# Altium footprint library PKY_LIB.PcbLib: 59 footprints (part 2 of 5)
Each footprint in its own frame and in the unit in brackets; x right, y up, seen from the top. Pads: shape width x height; smd on the part's side, far side on the other; paste and mask are expansions set on the pad; w line width, h text height; cw(c..) or ccw(c..) is an arc to the next point about the centre after c.
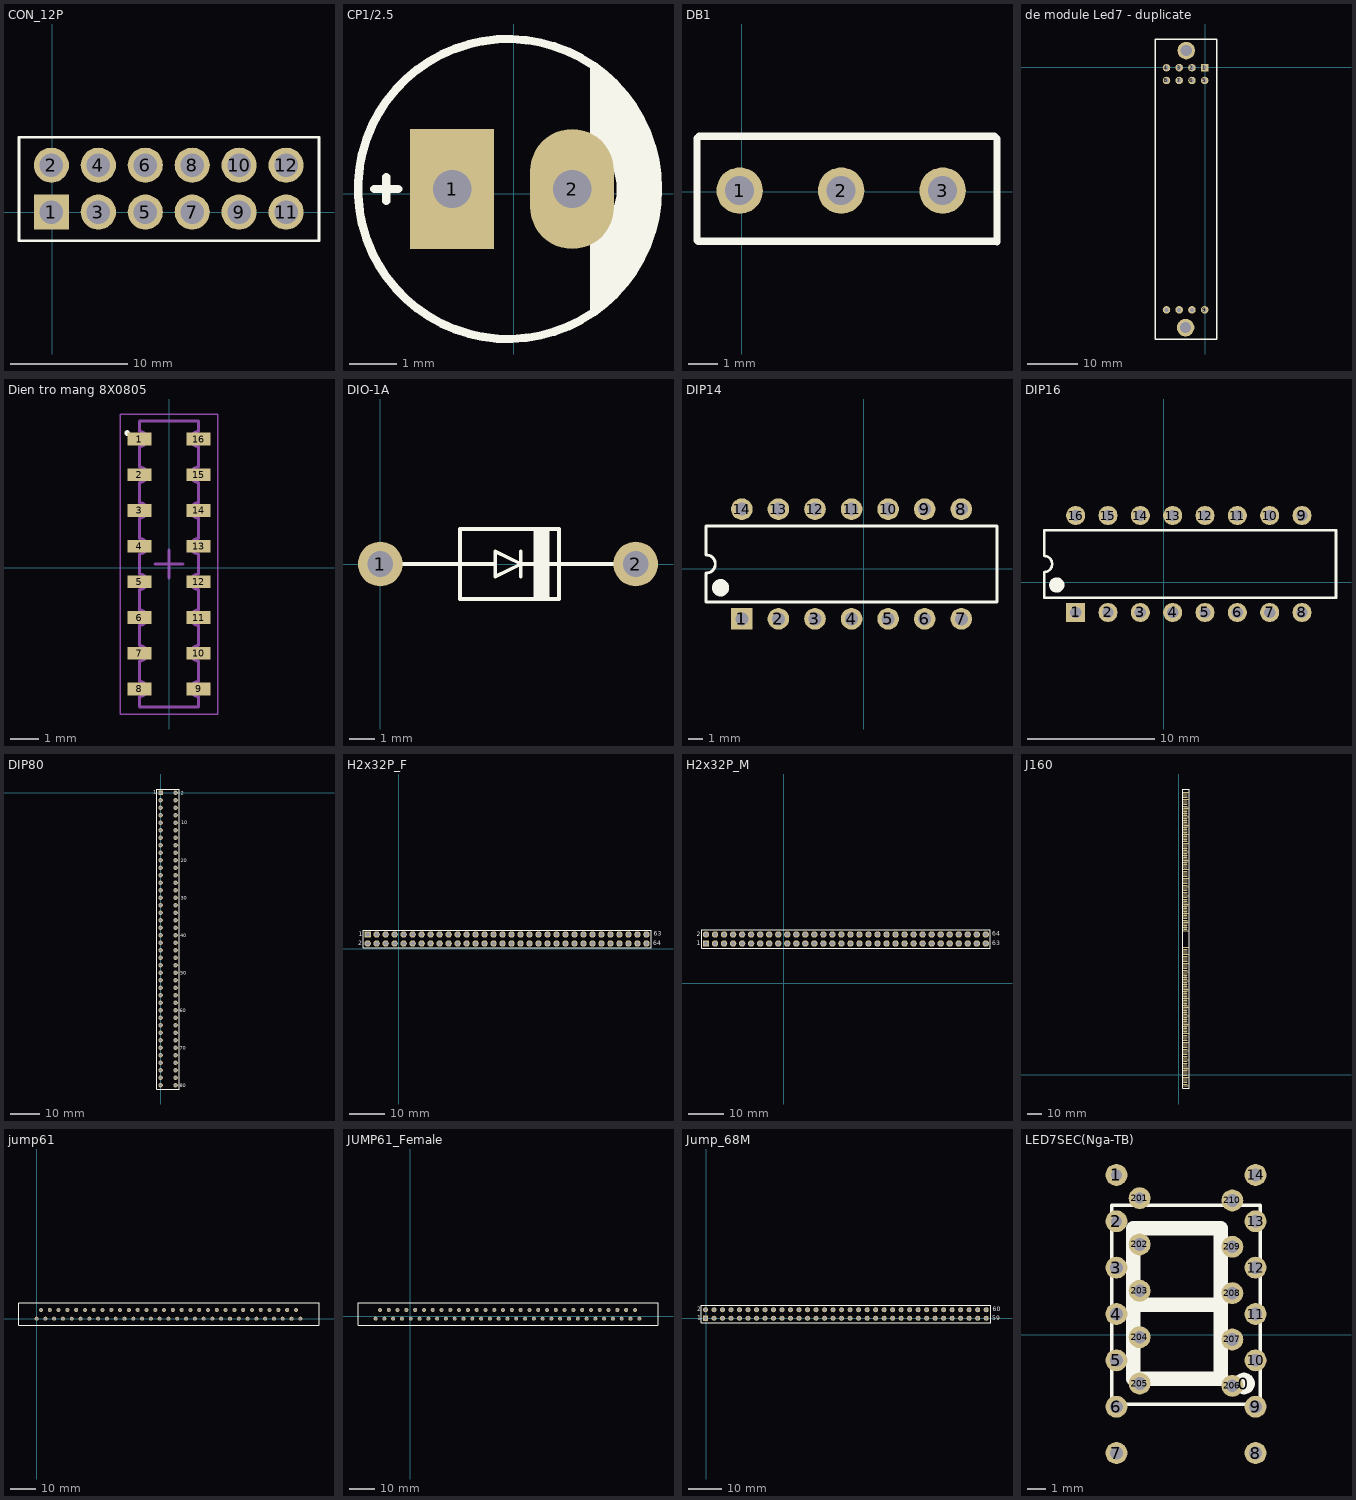
[diagram p1: the footprints below, top view; thin cyan lines are the x and y axes]

## CON_12P [mm]
pads (12):
  rect 3x3 hole 2: 1(-0.062,0.011)
  round 3 hole 2: 2(-0.062,4.011) 3(3.938,0.011) 4(3.938,4.011) 5(7.938,0.011) 6(7.938,4.011) 7(11.938,0.011) 8(11.938,4.011) 9(15.938,0.011) 10(15.938,4.011) 11(19.938,0.011) 12(19.938,4.011)
Top Overlay:
  lines w0.254: -2.825,6.394 -2.825,-2.428 22.747,-2.428 22.747,6.394 -2.663,6.394

## CP1/2.5 [mil]
pads (2):
  rect 70x100 hole 32: 1(-51.3,4.04)
  oval 70x100 hole 32: 2(48.7,4.04)
Top Overlay:
  circle w7: c-4.72,4.04 r125
  region: 63.7,109.04 63.7,40.04 70.7,35.04 77.7,29.04 81.7,24.04 83.7,19.04 85.7,9.04 85.7,-1.96 83.7,-9.96 80.7,-14.96 76.7,-19.96 72.7,-23.96 68.7,-26.96 63.7,-29.96 63.7,-102.96 72.7,-94.96 87.7,-81.96 100.7,-64.96 115.7,-31.96 119.7,-10.96 120.28,4.04 115.7,34.04 101.7,71.04 79.7,97.04
  lines w7: -116.3,4.04 -96.3,4.04 ; -106.3,-5.96 -106.3,-0.96 -106.3,9.04 -106.3,14.04
3D body "User Library-Cap 6_3x11.STEP": height 421.54, standoff -759.57, extent -127.3,-119.99 120.73,128.04

## DB1 [mm]
pads (3):
  round 1.6 hole 1: 1(-0.079,0.028) 2(3.421,0.028) 3(6.921,0.028)
Top Overlay:
  lines w0.254: -1.552,1.832 -1.552,-1.676 -1.516,-1.712 8.777,-1.712 8.795,-1.73 8.795,1.814 8.706,1.903 -1.48,1.903

## de module Led7 - duplicate [mm]
pads (14):
  rect 1.5x1.5 hole 0.8: 1(-0.078,-0.026)
  round 1.5 hole 0.8: 2(-2.618,-0.051) 3(-5.158,-0.026) 4(-7.698,-0.051) 5(-0.078,-2.591) 6(-2.618,-2.591) 7(-5.158,-2.591) 8(-7.698,-2.591) 9(-0.078,-48.311) 10(-2.618,-48.311) 11(-5.158,-48.311) 12(-7.698,-48.311)
  round 3.5 hole 2.2: ""(-3.888,-51.867) ""(-3.761,3.378)
Top Overlay:
  lines w0.254: -9.916,-54.127 2.296,-54.127 2.296,5.679 -9.916,5.679 -9.916,-54.127
3D body: height 1, standoff -10, extent -8.213,-0.563 -7.197,0.453
3D body: height 1, standoff -10, extent -5.673,-0.563 -4.657,0.453
3D body: height 1, standoff -10, extent -3.133,-0.563 -2.117,0.453
3D body: height 1, standoff -10, extent -0.593,-0.563 0.423,0.453
3D body: height 1, standoff -10, extent -8.213,-3.103 -7.197,-2.087
3D body: height 1, standoff -10, extent -5.673,-3.103 -4.657,-2.087
3D body: height 1, standoff -10, extent -3.133,-3.103 -2.117,-2.087
3D body: height 1, standoff -10, extent -0.593,-3.103 0.423,-2.087
3D body: height 1, standoff -10, extent -8.205,-48.819 -7.189,-47.803
3D body: height 1, standoff -10, extent -5.665,-48.819 -4.649,-47.803
3D body: height 1, standoff -10, extent -3.125,-48.819 -2.109,-47.803
3D body: height 1, standoff -10, extent -0.585,-48.819 0.431,-47.803

## Dien tro mang 8X0805 [mm]
pads (16):
  rect 0.85x0.45 smd: 1(-1.05,4.572) 2(-1.05,3.302) 3(-1.05,2.032) 4(-1.05,0.762) 5(-1.05,-0.508) 6(-1.05,-1.778) 7(-1.05,-3.048) 8(-1.05,-4.318) 9(1.05,-4.318) 10(1.05,-3.048) 11(1.05,-1.778) 12(1.05,-0.508) 13(1.05,0.762) 14(1.05,2.032) 15(1.05,3.302) 16(1.05,4.572)
Top Overlay:
  circle w0.1: c-1.487,4.785 r0.05
Mechanical 13:
  lines w0.1: -1.05,-4.958 1.05,-4.958 1.05,-4.593 cw(c1.05,-4.318) 1.05,-4.043 1.05,-3.323 cw(c1.05,-3.048) 1.05,-2.773 1.05,-2.053 cw(c1.05,-1.778) 1.05,-1.503 1.05,-0.783 cw(c1.05,-0.508) 1.05,-0.233 1.05,0.487 cw(c1.05,0.762) 1.05,1.037 1.05,1.757 cw(c1.05,2.032) 1.05,2.307 1.05,3.027 cw(c1.05,3.302) 1.05,3.577 1.05,4.297 cw(c1.05,4.572) 1.05,4.847 1.05,5.212 -1.05,5.212 -1.05,4.847 cw(c-1.05,4.572) -1.05,4.297 -1.05,3.577 cw(c-1.05,3.302) -1.05,3.027 -1.05,2.307 cw(c-1.05,2.032) -1.05,1.757 -1.05,1.037 cw(c-1.05,0.762) -1.05,0.487 -1.05,-0.233 cw(c-1.05,-0.508) -1.05,-0.783 -1.05,-1.503 cw(c-1.05,-1.778) -1.05,-2.053 -1.05,-2.773 cw(c-1.05,-3.048) -1.05,-3.323 -1.05,-4.043 cw(c-1.05,-4.318) -1.05,-4.593 -1.05,-4.958
Mechanical 15:
  lines w0.05: -1.735,-5.208 1.735,-5.208 1.735,5.462 -1.735,5.462 -1.735,-5.208
  lines w0.1: -0.5,0.127 0.5,0.127 ; 0,-0.373 0,0.627
3D body: height 0.6, standoff 0, extent -1,-4.958 1,5.212

## DIO-1A [mil]
pads (2):
  round 70 hole 40: 1(0,0) 2(400,0)
Top Overlay:
  rectangle: 240,-55 265,55
  lines w6: 60,0 125,0 ; 180,0 125,0 ; 220,-20 220,20 ; 125,0 125,55 280,55 280,40 280,0 ; 125,0 125,-55 280,-55 280,0 ; 220,0 180,20 180,-20 220,0 ; 220,0 280,0 ; 280,0 335,0 ; 335,0 365,0 335,0 ; 35,0 65,0 35,0

## DIP14 [mm]
pads (14):
  rect 1.5x1.5 hole 0.9: 1(-8.471,-3.463)
  round 1.5 hole 0.9: 2(-5.931,-3.463) 3(-3.391,-3.463) 4(-0.851,-3.463) 5(1.689,-3.463) 6(4.229,-3.463) 7(6.769,-3.463) 8(6.769,4.157) 9(4.229,4.157) 10(1.689,4.157) 11(-0.851,4.157) 12(-3.391,4.157) 13(-5.931,4.157) 14(-8.471,4.157)
Top Overlay:
  circle w0.6: c-9.951,-1.303 r0.3
  lines w0.2: -10.951,-2.303 -10.951,-0.288 ccw(c-10.951,0.347) -10.951,0.982 -10.951,2.997 9.249,2.997 9.249,-2.303 -10.951,-2.303

## DIP16 [mm]
pads (16):
  rect 1.5x1.5 hole 0.9: 1(-6.936,-2.382)
  round 1.5 hole 0.9: 2(-4.396,-2.382) 3(-1.856,-2.382) 4(0.684,-2.382) 5(3.224,-2.382) 6(5.764,-2.382) 7(8.304,-2.382) 8(10.844,-2.382) 9(10.844,5.238) 10(8.304,5.238) 11(5.764,5.238) 12(3.224,5.238) 13(0.684,5.238) 14(-1.856,5.238) 15(-4.396,5.238) 16(-6.936,5.238)
Top Overlay:
  circle w0.6: c-8.416,-0.222 r0.3
  lines w0.2: -9.416,-1.222 -9.416,0.793 ccw(c-9.416,1.428) -9.416,2.063 -9.416,4.078 13.516,4.078 13.516,-1.222 -9.416,-1.222

## DIP80 [mm]
pads (80):
  rect 1.5x1.5 hole 0.9: 1(0,0)
  round 1.5 hole 0.9: 2(5.08,0) 3(0,-2.54) 4(5.08,-2.54) 5(0,-5.08) 6(5.08,-5.08) 7(0,-7.62) 8(5.08,-7.62) 9(0,-10.16) 10(5.08,-10.16) 11(0,-12.7) 12(5.08,-12.7) 13(0,-15.24) 14(5.08,-15.24) 15(0,-17.78) 16(5.08,-17.78) 17(0,-20.32) 18(5.08,-20.32) 19(0,-22.86) 20(5.08,-22.86) 21(0,-25.4) 22(5.08,-25.4) 23(0,-27.94) 24(5.08,-27.94) 25(0,-30.48) 26(5.08,-30.48) 27(0,-33.02) 28(5.08,-33.02) 29(0,-35.56) 30(5.08,-35.56) 31(0,-38.1) 32(5.08,-38.1) 33(0,-40.64) 34(5.08,-40.64) 35(0,-43.18) 36(5.08,-43.18) 37(0,-45.72) 38(5.08,-45.72) 39(0,-48.26) 40(5.08,-48.26) 41(0,-50.8) 42(5.08,-50.8) 43(0,-53.34) 44(5.08,-53.34) 45(0,-55.88) 46(5.08,-55.88) 47(0,-58.42) 48(5.08,-58.42) 49(0,-60.96) 50(5.08,-60.96) 51(0,-63.5) 52(5.08,-63.5) 53(0,-66.04) 54(5.08,-66.04) 55(0,-68.58) 56(5.08,-68.58) 57(0,-71.12) 58(5.08,-71.12) 59(0,-73.66) 60(5.08,-73.66) 61(0,-76.2) 62(5.08,-76.2) 63(0,-78.74) 64(5.08,-78.74) 65(0,-81.28) 66(5.08,-81.28) 67(0,-83.82) 68(5.08,-83.82) 69(0,-86.36) 70(5.08,-86.36) 71(0,-88.9) 72(5.08,-88.9) 73(0,-91.44) 74(5.08,-91.44) 75(0,-93.98) 76(5.08,-93.98) 77(0,-96.52) 78(5.08,-96.52) 79(0,-99.06) 80(5.08,-99.06)
Top Overlay:
  lines w0.2: -1.27,-100.33 -1.27,-49.53 -1.27,1.27 6.35,1.27 6.35,-49.53 6.35,-100.33 -1.27,-100.33
  text "1" at -2.54,-0.381 h1.27
  text "2" at 6.782,-0.711 h1.27
  text "10" at 6.985,-10.668 h1.27
  text "20" at 6.782,-23.571 h1.27
  text "30" at 6.782,-36.271 h1.27
  text "40" at 6.655,-48.971 h1.27
  text "50" at 6.655,-61.671 h1.27
  text "60" at 6.528,-74.371 h1.27
  text "70" at 6.528,-87.071 h1.27
  text "80" at 6.528,-99.771 h1.27
3D body: height 7, standoff -1, extent -0.406,-10.566 0.39,-9.768
3D body: height 7, standoff -1, extent -0.406,-8.026 0.39,-7.228
3D body: height 7, standoff -1, extent -0.406,-5.486 0.39,-4.688
3D body: height 7, standoff -1, extent -0.406,-2.946 0.39,-2.148
3D body: height 7, standoff -1, extent -0.406,-0.406 0.39,0.392
3D body: height 1.5, standoff 0, extent 1.27,-11.43 3.81,-8.89
3D body: height 1.5, standoff 0, extent -1.27,-11.43 1.27,-8.89
3D body: height 1.5, standoff 0, extent 1.27,-8.89 3.81,-6.35
3D body: height 1.5, standoff 0, extent -1.27,-8.89 1.27,-6.35
3D body: height 1.5, standoff 0, extent 1.27,-6.35 3.81,-3.81
3D body: height 1.5, standoff 0, extent -1.27,-6.35 1.27,-3.81
3D body: height 1.5, standoff 0, extent 1.27,-3.81 3.81,-1.27
3D body: height 1.5, standoff 0, extent -1.27,-3.81 1.27,-1.27
3D body: height 1.5, standoff 0, extent 1.27,-1.27 3.81,1.27
3D body: height 1.5, standoff 0, extent -1.27,-1.27 1.27,1.27
3D body: height 1.5, standoff 0, extent 3.81,-1.27 6.35,1.27
3D body: height 1.5, standoff 0, extent 3.81,-3.81 6.35,-1.27
3D body: height 1.5, standoff 0, extent 3.81,-6.35 6.35,-3.81
3D body: height 1.5, standoff 0, extent 3.81,-8.89 6.35,-6.35
3D body: height 1.5, standoff 0, extent 3.81,-11.43 6.35,-8.89
3D body: height 7, standoff -1, extent 4.674,-0.406 5.47,0.392
3D body: height 7, standoff -1, extent 4.674,-2.946 5.47,-2.148
3D body: height 7, standoff -1, extent 4.674,-5.486 5.47,-4.688
3D body: height 7, standoff -1, extent 4.674,-8.026 5.47,-7.228
3D body: height 7, standoff -1, extent 4.674,-10.566 5.47,-9.768
3D body: height 7, standoff -1, extent -0.406,-23.266 0.39,-22.468
3D body: height 7, standoff -1, extent -0.406,-20.726 0.39,-19.928
3D body: height 7, standoff -1, extent -0.406,-18.186 0.39,-17.388
3D body: height 7, standoff -1, extent -0.406,-15.646 0.39,-14.848
3D body: height 7, standoff -1, extent -0.406,-13.106 0.39,-12.308
3D body: height 1.5, standoff 0, extent 1.27,-24.13 3.81,-21.59
3D body: height 1.5, standoff 0, extent -1.27,-24.13 1.27,-21.59
3D body: height 1.5, standoff 0, extent 1.27,-21.59 3.81,-19.05
3D body: height 1.5, standoff 0, extent -1.27,-21.59 1.27,-19.05
3D body: height 1.5, standoff 0, extent 1.27,-19.05 3.81,-16.51
3D body: height 1.5, standoff 0, extent -1.27,-19.05 1.27,-16.51
3D body: height 1.5, standoff 0, extent 1.27,-16.51 3.81,-13.97
3D body: height 1.5, standoff 0, extent -1.27,-16.51 1.27,-13.97
3D body: height 1.5, standoff 0, extent 1.27,-13.97 3.81,-11.43
3D body: height 1.5, standoff 0, extent -1.27,-13.97 1.27,-11.43
3D body: height 1.5, standoff 0, extent 3.81,-13.97 6.35,-11.43
3D body: height 1.5, standoff 0, extent 3.81,-16.51 6.35,-13.97
3D body: height 1.5, standoff 0, extent 3.81,-19.05 6.35,-16.51
3D body: height 1.5, standoff 0, extent 3.81,-21.59 6.35,-19.05
3D body: height 1.5, standoff 0, extent 3.81,-24.13 6.35,-21.59
3D body: height 7, standoff -1, extent 4.674,-13.106 5.47,-12.308
3D body: height 7, standoff -1, extent 4.674,-15.646 5.47,-14.848
3D body: height 7, standoff -1, extent 4.674,-18.186 5.47,-17.388
3D body: height 7, standoff -1, extent 4.674,-20.726 5.47,-19.928
3D body: height 7, standoff -1, extent 4.674,-23.266 5.47,-22.468
3D body: height 7, standoff -1, extent 4.674,-48.666 5.47,-47.868
3D body: height 7, standoff -1, extent 4.674,-46.126 5.47,-45.328
3D body: height 7, standoff -1, extent 4.674,-43.586 5.47,-42.788
3D body: height 7, standoff -1, extent 4.674,-41.046 5.47,-40.248
3D body: height 7, standoff -1, extent 4.674,-38.506 5.47,-37.708
3D body: height 1.5, standoff 0, extent 3.81,-49.53 6.35,-46.99
3D body: height 1.5, standoff 0, extent 3.81,-46.99 6.35,-44.45
3D body: height 1.5, standoff 0, extent 3.81,-44.45 6.35,-41.91
3D body: height 1.5, standoff 0, extent 3.81,-41.91 6.35,-39.37
3D body: height 1.5, standoff 0, extent 3.81,-39.37 6.35,-36.83
3D body: height 1.5, standoff 0, extent -1.27,-39.37 1.27,-36.83
3D body: height 1.5, standoff 0, extent 1.27,-39.37 3.81,-36.83
3D body: height 1.5, standoff 0, extent -1.27,-41.91 1.27,-39.37
3D body: height 1.5, standoff 0, extent 1.27,-41.91 3.81,-39.37
3D body: height 1.5, standoff 0, extent -1.27,-44.45 1.27,-41.91
3D body: height 1.5, standoff 0, extent 1.27,-44.45 3.81,-41.91
3D body: height 1.5, standoff 0, extent -1.27,-46.99 1.27,-44.45
3D body: height 1.5, standoff 0, extent 1.27,-46.99 3.81,-44.45
3D body: height 1.5, standoff 0, extent -1.27,-49.53 1.27,-46.99
3D body: height 1.5, standoff 0, extent 1.27,-49.53 3.81,-46.99
3D body: height 7, standoff -1, extent -0.406,-38.506 0.39,-37.708
3D body: height 7, standoff -1, extent -0.406,-41.046 0.39,-40.248
3D body: height 7, standoff -1, extent -0.406,-43.586 0.39,-42.788
3D body: height 7, standoff -1, extent -0.406,-46.126 0.39,-45.328
3D body: height 7, standoff -1, extent -0.406,-48.666 0.39,-47.868
3D body: height 7, standoff -1, extent 4.674,-35.966 5.47,-35.168
3D body: height 7, standoff -1, extent 4.674,-33.426 5.47,-32.628
3D body: height 7, standoff -1, extent 4.674,-30.886 5.47,-30.088
3D body: height 7, standoff -1, extent 4.674,-28.346 5.47,-27.548
3D body: height 7, standoff -1, extent 4.674,-25.806 5.47,-25.008
3D body: height 1.5, standoff 0, extent 3.81,-36.83 6.35,-34.29
3D body: height 1.5, standoff 0, extent 3.81,-34.29 6.35,-31.75
3D body: height 1.5, standoff 0, extent 3.81,-31.75 6.35,-29.21
3D body: height 1.5, standoff 0, extent 3.81,-29.21 6.35,-26.67
3D body: height 1.5, standoff 0, extent 3.81,-26.67 6.35,-24.13
3D body: height 1.5, standoff 0, extent -1.27,-26.67 1.27,-24.13
3D body: height 1.5, standoff 0, extent 1.27,-26.67 3.81,-24.13
3D body: height 1.5, standoff 0, extent -1.27,-29.21 1.27,-26.67
3D body: height 1.5, standoff 0, extent 1.27,-29.21 3.81,-26.67
3D body: height 1.5, standoff 0, extent -1.27,-31.75 1.27,-29.21
3D body: height 1.5, standoff 0, extent 1.27,-31.75 3.81,-29.21
3D body: height 1.5, standoff 0, extent -1.27,-34.29 1.27,-31.75
3D body: height 1.5, standoff 0, extent 1.27,-34.29 3.81,-31.75
3D body: height 1.5, standoff 0, extent -1.27,-36.83 1.27,-34.29
3D body: height 1.5, standoff 0, extent 1.27,-36.83 3.81,-34.29
3D body: height 7, standoff -1, extent -0.406,-25.806 0.39,-25.008
3D body: height 7, standoff -1, extent -0.406,-28.346 0.39,-27.548
3D body: height 7, standoff -1, extent -0.406,-30.886 0.39,-30.088
3D body: height 7, standoff -1, extent -0.406,-33.426 0.39,-32.628
3D body: height 7, standoff -1, extent -0.406,-35.966 0.39,-35.168
3D body: height 7, standoff -1, extent -0.406,-86.766 0.39,-85.968
3D body: height 7, standoff -1, extent -0.406,-84.226 0.39,-83.428
3D body: height 7, standoff -1, extent -0.406,-81.686 0.39,-80.888
3D body: height 7, standoff -1, extent -0.406,-79.146 0.39,-78.348
3D body: height 7, standoff -1, extent -0.406,-76.606 0.39,-75.808
3D body: height 1.5, standoff 0, extent 1.27,-87.63 3.81,-85.09
3D body: height 1.5, standoff 0, extent -1.27,-87.63 1.27,-85.09
3D body: height 1.5, standoff 0, extent 1.27,-85.09 3.81,-82.55
3D body: height 1.5, standoff 0, extent -1.27,-85.09 1.27,-82.55
3D body: height 1.5, standoff 0, extent 1.27,-82.55 3.81,-80.01
3D body: height 1.5, standoff 0, extent -1.27,-82.55 1.27,-80.01
3D body: height 1.5, standoff 0, extent 1.27,-80.01 3.81,-77.47
3D body: height 1.5, standoff 0, extent -1.27,-80.01 1.27,-77.47
3D body: height 1.5, standoff 0, extent 1.27,-77.47 3.81,-74.93
3D body: height 1.5, standoff 0, extent -1.27,-77.47 1.27,-74.93
3D body: height 1.5, standoff 0, extent 3.81,-77.47 6.35,-74.93
3D body: height 1.5, standoff 0, extent 3.81,-80.01 6.35,-77.47
3D body: height 1.5, standoff 0, extent 3.81,-82.55 6.35,-80.01
3D body: height 1.5, standoff 0, extent 3.81,-85.09 6.35,-82.55
3D body: height 1.5, standoff 0, extent 3.81,-87.63 6.35,-85.09
3D body: height 7, standoff -1, extent 4.674,-76.606 5.47,-75.808
3D body: height 7, standoff -1, extent 4.674,-79.146 5.47,-78.348
3D body: height 7, standoff -1, extent 4.674,-81.686 5.47,-80.888
3D body: height 7, standoff -1, extent 4.674,-84.226 5.47,-83.428
3D body: height 7, standoff -1, extent 4.674,-86.766 5.47,-85.968
3D body: height 7, standoff -1, extent -0.406,-99.466 0.39,-98.668
3D body: height 7, standoff -1, extent -0.406,-96.926 0.39,-96.128
3D body: height 7, standoff -1, extent -0.406,-94.386 0.39,-93.588
3D body: height 7, standoff -1, extent -0.406,-91.846 0.39,-91.048
3D body: height 7, standoff -1, extent -0.406,-89.306 0.39,-88.508
3D body: height 1.5, standoff 0, extent 1.27,-100.33 3.81,-97.79
3D body: height 1.5, standoff 0, extent -1.27,-100.33 1.27,-97.79
3D body: height 1.5, standoff 0, extent 1.27,-97.79 3.81,-95.25
3D body: height 1.5, standoff 0, extent -1.27,-97.79 1.27,-95.25
3D body: height 1.5, standoff 0, extent 1.27,-95.25 3.81,-92.71
3D body: height 1.5, standoff 0, extent -1.27,-95.25 1.27,-92.71
3D body: height 1.5, standoff 0, extent 1.27,-92.71 3.81,-90.17
3D body: height 1.5, standoff 0, extent -1.27,-92.71 1.27,-90.17
3D body: height 1.5, standoff 0, extent 1.27,-90.17 3.81,-87.63
3D body: height 1.5, standoff 0, extent -1.27,-90.17 1.27,-87.63
3D body: height 1.5, standoff 0, extent 3.81,-90.17 6.35,-87.63
3D body: height 1.5, standoff 0, extent 3.81,-92.71 6.35,-90.17
3D body: height 1.5, standoff 0, extent 3.81,-95.25 6.35,-92.71
3D body: height 1.5, standoff 0, extent 3.81,-97.79 6.35,-95.25
3D body: height 1.5, standoff 0, extent 3.81,-100.33 6.35,-97.79
3D body: height 7, standoff -1, extent 4.674,-89.306 5.47,-88.508
3D body: height 7, standoff -1, extent 4.674,-91.846 5.47,-91.048
3D body: height 7, standoff -1, extent 4.674,-94.386 5.47,-93.588
3D body: height 7, standoff -1, extent 4.674,-96.926 5.47,-96.128
3D body: height 7, standoff -1, extent 4.674,-99.466 5.47,-98.668
3D body: height 7, standoff -1, extent 4.674,-74.066 5.47,-73.268
3D body: height 7, standoff -1, extent 4.674,-71.526 5.47,-70.728
3D body: height 7, standoff -1, extent 4.674,-68.986 5.47,-68.188
3D body: height 7, standoff -1, extent 4.674,-66.446 5.47,-65.648
3D body: height 7, standoff -1, extent 4.674,-63.906 5.47,-63.108
3D body: height 1.5, standoff 0, extent 3.81,-74.93 6.35,-72.39
3D body: height 1.5, standoff 0, extent 3.81,-72.39 6.35,-69.85
3D body: height 1.5, standoff 0, extent 3.81,-69.85 6.35,-67.31
3D body: height 1.5, standoff 0, extent 3.81,-67.31 6.35,-64.77
3D body: height 1.5, standoff 0, extent 3.81,-64.77 6.35,-62.23
3D body: height 1.5, standoff 0, extent -1.27,-64.77 1.27,-62.23
3D body: height 1.5, standoff 0, extent 1.27,-64.77 3.81,-62.23
3D body: height 1.5, standoff 0, extent -1.27,-67.31 1.27,-64.77
3D body: height 1.5, standoff 0, extent 1.27,-67.31 3.81,-64.77
3D body: height 1.5, standoff 0, extent -1.27,-69.85 1.27,-67.31
3D body: height 1.5, standoff 0, extent 1.27,-69.85 3.81,-67.31
3D body: height 1.5, standoff 0, extent -1.27,-72.39 1.27,-69.85
3D body: height 1.5, standoff 0, extent 1.27,-72.39 3.81,-69.85
3D body: height 1.5, standoff 0, extent -1.27,-74.93 1.27,-72.39
3D body: height 1.5, standoff 0, extent 1.27,-74.93 3.81,-72.39
3D body: height 7, standoff -1, extent -0.406,-63.906 0.39,-63.108
3D body: height 7, standoff -1, extent -0.406,-66.446 0.39,-65.648
3D body: height 7, standoff -1, extent -0.406,-68.986 0.39,-68.188
3D body: height 7, standoff -1, extent -0.406,-71.526 0.39,-70.728
3D body: height 7, standoff -1, extent -0.406,-74.066 0.39,-73.268
3D body: height 7, standoff -1, extent 4.674,-61.366 5.47,-60.568
3D body: height 7, standoff -1, extent 4.674,-58.826 5.47,-58.028
3D body: height 7, standoff -1, extent 4.674,-56.286 5.47,-55.488
3D body: height 7, standoff -1, extent 4.674,-53.746 5.47,-52.948
3D body: height 7, standoff -1, extent 4.674,-51.206 5.47,-50.408
3D body: height 1.5, standoff 0, extent 3.81,-62.23 6.35,-59.69
3D body: height 1.5, standoff 0, extent 3.81,-59.69 6.35,-57.15
3D body: height 1.5, standoff 0, extent 3.81,-57.15 6.35,-54.61
3D body: height 1.5, standoff 0, extent 3.81,-54.61 6.35,-52.07
3D body: height 1.5, standoff 0, extent 3.81,-52.07 6.35,-49.53
3D body: height 1.5, standoff 0, extent -1.27,-52.07 1.27,-49.53
3D body: height 1.5, standoff 0, extent 1.27,-52.07 3.81,-49.53
3D body: height 1.5, standoff 0, extent -1.27,-54.61 1.27,-52.07
3D body: height 1.5, standoff 0, extent 1.27,-54.61 3.81,-52.07
3D body: height 1.5, standoff 0, extent -1.27,-57.15 1.27,-54.61
3D body: height 1.5, standoff 0, extent 1.27,-57.15 3.81,-54.61
3D body: height 1.5, standoff 0, extent -1.27,-59.69 1.27,-57.15
3D body: height 1.5, standoff 0, extent 1.27,-59.69 3.81,-57.15
3D body: height 1.5, standoff 0, extent -1.27,-62.23 1.27,-59.69
3D body: height 1.5, standoff 0, extent 1.27,-62.23 3.81,-59.69
3D body: height 7, standoff -1, extent -0.406,-51.206 0.39,-50.408
3D body: height 7, standoff -1, extent -0.406,-53.746 0.39,-52.948
3D body: height 7, standoff -1, extent -0.406,-56.286 0.39,-55.488
3D body: height 7, standoff -1, extent -0.406,-58.826 0.39,-58.028
3D body: height 7, standoff -1, extent -0.406,-61.366 0.39,-60.568

## H2x32P_F [mm]
pads (64):
  rect 1.8x1.8 hole 1.2: 1(-8.775,4.038)
  round 1.8 hole 1.2: 2(-8.775,1.498) 3(-6.235,4.038) 4(-6.235,1.498) 5(-3.695,4.038) 6(-3.695,1.498) 7(-1.155,4.038) 8(-1.155,1.498) 9(1.385,4.038) 10(1.385,1.498) 11(3.925,4.038) 12(3.925,1.498) 13(6.465,4.038) 14(6.465,1.498) 15(9.005,4.038) 16(9.005,1.498) 17(11.545,4.038) 18(11.545,1.498) 19(14.085,4.038) 20(14.085,1.498) 21(16.625,4.038) 22(16.625,1.498) 23(19.165,4.038) 24(19.165,1.498) 25(21.705,4.038) 26(21.705,1.498) 27(24.245,4.038) 28(24.245,1.498) 29(26.785,4.038) 30(26.785,1.498) 31(29.325,4.038) 32(29.325,1.498) 33(31.865,4.038) 34(31.865,1.498) 35(34.405,4.038) 36(34.405,1.498) 37(36.945,4.038) 38(36.945,1.498) 39(39.485,4.038) 40(39.485,1.498) 41(42.025,4.038) 42(42.025,1.498) 43(44.565,4.038) 44(44.565,1.498) 45(47.105,4.038) 46(47.105,1.498) 47(49.645,4.038) 48(49.645,1.498) 49(52.185,4.038) 50(52.185,1.498) 51(54.725,4.038) 52(54.725,1.498) 53(57.265,4.038) 54(57.265,1.498) 55(59.805,4.038) 56(59.805,1.498) 57(62.345,4.038) 58(62.345,1.498) 59(64.885,4.038) 60(64.885,1.498) 61(67.425,4.038) 62(67.425,1.498) 63(69.965,4.038) 64(69.965,1.498)
Top Overlay:
  lines w0.2: -10.045,0.228 -10.045,5.308 71.285,5.308 71.285,0.228 -10.045,0.228
  text "2" at -11.505,0.957 h1.27
  text "63" at 71.964,3.644 h1.27
  text "64" at 71.92,0.979 h1.27
  text "1" at -11.229,3.565 h1.27
Bottom Overlay:
  text "1" at -64.655,0.99 h1.27

## H2x32P_M [mm]
pads (64):
  rect 1.8x1.8 hole 1.2: 1(-21.918,11.145)
  round 1.8 hole 1.2: 2(-21.918,13.685) 3(-19.378,11.145) 4(-19.378,13.685) 5(-16.838,11.145) 6(-16.838,13.685) 7(-14.298,11.145) 8(-14.298,13.685) 9(-11.758,11.145) 10(-11.758,13.685) 11(-9.218,11.145) 12(-9.218,13.685) 13(-6.678,11.145) 14(-6.678,13.685) 15(-4.138,11.145) 16(-4.138,13.685) 17(-1.598,11.145) 18(-1.598,13.685) 19(0.942,11.145) 20(0.942,13.685) 21(3.482,11.145) 22(3.482,13.685) 23(6.022,11.145) 24(6.022,13.685) 25(8.562,11.145) 26(8.562,13.685) 27(11.102,11.145) 28(11.102,13.685) 29(13.642,11.145) 30(13.642,13.685) 31(16.182,11.145) 32(16.182,13.685) 33(18.722,11.145) 34(18.722,13.685) 35(21.262,11.145) 36(21.262,13.685) 37(23.802,11.145) 38(23.802,13.685) 39(26.342,11.145) 40(26.342,13.685) 41(28.882,11.145) 42(28.882,13.685) 43(31.422,11.145) 44(31.422,13.685) 45(33.962,11.145) 46(33.962,13.685) 47(36.502,11.145) 48(36.502,13.685) 49(39.042,11.145) 50(39.042,13.685) 51(41.582,11.145) 52(41.582,13.685) 53(44.122,11.145) 54(44.122,13.685) 55(46.662,11.145) 56(46.662,13.685) 57(49.202,11.145) 58(49.202,13.685) 59(51.742,11.145) 60(51.742,13.685) 61(54.282,11.145) 62(54.282,13.685) 63(56.822,11.145) 64(56.822,13.685)
Top Overlay:
  lines w0.2: -23.188,9.875 58.142,9.875 58.142,14.955 -23.188,14.955 -23.188,9.875
  text "64" at 58.702,13.266 h1.27
  text "63" at 58.702,10.65 h1.27
  text "1" at -24.458,10.637 h1.27
  text "2" at -24.458,13.177 h1.27
Bottom Overlay:
  text "1" at -77.798,10.637 h1.27

## J160 [mm]
pads (160):
  oct 4x0.8 all layers, no hole: 1(5.082,199.976) 5(5.082,195.003) 10(5.082,188.785) 15(5.082,182.568) 20(5.082,176.351) 25(5.082,170.134) 30(5.082,163.917) 35(5.082,157.762) 40(5.082,151.545) 45(5.082,145.327) 50(5.082,139.11) 55(5.082,132.893) 60(5.082,126.676) 65(5.082,120.459) 70(5.082,114.242) 75(5.082,108.087) 80(5.082,101.869) 81(5.103,90.109) 84(5.103,85.136) 90(5.103,78.918) 95(5.103,72.701) 100(5.103,66.484) 105(5.103,60.267) 110(5.103,54.05) 115(5.103,47.895) 120(5.103,41.678) 125(5.103,35.46) 130(5.103,29.243) 135(5.103,23.026) 140(5.103,16.809) 145(5.103,10.592) 150(5.103,4.375) 155(5.103,-1.78) 160(5.103,-7.998)
  oct 3x0.8 all layers, no hole: 2(4.582,198.733) 3(4.582,197.49) 4(4.582,196.246) 6(4.582,193.759) 7(4.582,192.516) 8(4.582,191.272) 9(4.582,190.029) 11(4.582,187.542) 12(4.582,186.299) 13(4.582,185.055) 14(4.582,183.812) 16(4.582,181.325) 17(4.582,180.081) 18(4.582,178.838) 19(4.582,177.595) 21(4.582,175.108) 22(4.582,173.864) 23(4.582,172.621) 24(4.582,171.377) 26(4.582,168.891) 27(4.582,167.647) 28(4.582,166.404) 29(4.582,165.16) 31(4.582,162.673) 32(4.582,161.43) 33(4.582,160.249) 34(4.582,159.005) 36(4.582,156.518) 37(4.582,155.275) 38(4.582,154.032) 39(4.582,152.788) 41(4.582,150.301) 42(4.582,149.058) 43(4.582,147.814) 44(4.582,146.571) 46(4.582,144.084) 47(4.582,142.841) 48(4.582,141.597) 49(4.582,140.354) 51(4.582,137.867) 52(4.582,136.623) 53(4.582,135.38) 54(4.582,134.137) 56(4.582,131.65) 57(4.582,130.406) 58(4.582,129.163) 59(4.582,127.919) 61(4.582,125.433) 62(4.582,124.189) 63(4.582,122.946) 64(4.582,121.702) 66(4.582,119.215) 67(4.582,117.972) 68(4.582,116.729) 69(4.582,115.485) 71(4.582,112.998) 72(4.582,111.817) 73(4.582,110.574) 74(4.582,109.33) 76(4.582,106.843) 77(4.582,105.6) 78(4.582,104.356) 79(4.582,103.113) 82(4.603,88.866) 83(4.603,87.623) 84(4.603,86.379) 86(4.603,83.892) 87(4.603,82.649) 88(4.603,81.405) 89(4.603,80.162) 91(4.603,77.675) 92(4.603,76.432) 93(4.603,75.188) 94(4.603,73.945) 96(4.603,71.458) 97(4.603,70.214) 98(4.603,68.971) 99(4.603,67.728) 101(4.603,65.241) 102(4.603,63.997) 103(4.603,62.754) 104(4.603,61.51) 106(4.603,59.024) 107(4.603,57.78) 108(4.603,56.537) 109(4.603,55.293) 111(4.603,52.806) 112(4.603,51.563) 113(4.603,50.382) 114(4.603,49.138) 116(4.603,46.651) 117(4.603,45.408) 118(4.603,44.165) 119(4.603,42.921) 121(4.603,40.434) 122(4.603,39.191) 123(4.603,37.947) 124(4.603,36.704) 126(4.603,34.217) 127(4.603,32.974) 128(4.603,31.73) 129(4.603,30.487) 131(4.603,28) 132(4.603,26.756) 133(4.603,25.513) 134(4.603,24.27) 136(4.603,21.783) 137(4.603,20.539) 138(4.603,19.296) 139(4.603,18.052) 141(4.603,15.566) 142(4.603,14.322) 143(4.603,13.079) 144(4.603,11.835) 146(4.603,9.348) 147(4.603,8.105) 148(4.603,6.862) 149(4.603,5.618) 151(4.603,3.131) 152(4.603,1.95) 153(4.603,0.707) 154(4.603,-0.537) 156(4.603,-3.024) 157(4.603,-4.267) 158(4.603,-5.511) 159(4.603,-6.754)
Top Overlay:
  lines w0.3: 2.714,202.351 2.714,-9.298 4.627,-9.298 7.494,-9.298 7.494,-4.518 7.494,191.907 ; 2.717,202.369 7.378,202.369 ; 7.507,191.983 7.507,202.348

## jump61 [mm]
pads (61):
  round 1.6 hole 1: 1(103.25,3.5) 2(99.75,3.5) 3(96.25,3.5) 4(92.75,3.5) 5(89.25,3.5) 6(85.75,3.5) 7(82.25,3.5) 8(78.75,3.5) 9(75.25,3.5) 10(71.75,3.5) 11(68.25,3.5) 12(64.75,3.5) 13(61.25,3.5) 14(57.75,3.5) 15(54.25,3.5) 16(50.75,3.5) 17(47.25,3.5) 18(43.75,3.5) 19(40.25,3.5) 20(36.75,3.5) 21(33.25,3.5) 22(29.75,3.5) 23(26.25,3.5) 24(22.75,3.5) 25(19.25,3.5) 26(15.75,3.5) 27(12.25,3.5) 28(8.75,3.5) 29(5.25,3.5) 30(1.75,3.5) 31(105,0) 32(101.5,0) 33(98,0) 34(94.5,0) 35(91,0) 36(87.5,0) 37(84,0) 38(80.5,0) 39(77,0) 40(73.5,0) 41(70,0) 42(66.5,0) 43(63,0) 44(59.5,0) 45(56,0) 46(52.5,0) 47(49,0) 48(45.5,0) 49(42,0) 50(38.5,0) 51(35,0) 52(31.5,0) 53(28,0) 54(24.5,0) 55(21,0) 56(17.5,0) 57(14,0) 58(10.5,0) 59(7,0) 60(3.5,0) 61(0,0)
Top Overlay:
  lines w0.254: -7.001,-2.531 -7.001,6.196 -6.892,6.305 112.442,6.305 112.442,6.144 112.442,-2.341 112.253,-2.531 -7.001,-2.531

## JUMP61_Female [mm]
pads (61):
  round 1.6 hole 1: 1(-11.999,2.427) 2(-8.499,2.427) 3(-4.999,2.427) 4(-1.499,2.427) 5(2.001,2.427) 6(5.501,2.427) 7(9.001,2.427) 8(12.501,2.427) 9(16.001,2.427) 10(19.501,2.427) 11(23.001,2.427) 12(26.501,2.427) 13(30.001,2.427) 14(33.501,2.427) 15(37.001,2.427) 16(40.501,2.427) 17(44.001,2.427) 18(47.501,2.427) 19(51.001,2.427) 20(54.501,2.427) 21(58.001,2.427) 22(61.501,2.427) 23(65.001,2.427) 24(68.501,2.427) 25(72.001,2.427) 26(75.501,2.427) 27(79.001,2.427) 28(82.501,2.427) 29(86.001,2.427) 30(89.501,2.427) 31(-13.749,-1.073) 32(-10.249,-1.073) 33(-6.749,-1.073) 34(-3.249,-1.073) 35(0.251,-1.073) 36(3.751,-1.073) 37(7.251,-1.073) 38(10.751,-1.073) 39(14.251,-1.073) 40(17.751,-1.073) 41(21.251,-1.073) 42(24.751,-1.073) 43(28.251,-1.073) 44(31.751,-1.073) 45(35.251,-1.073) 46(38.751,-1.073) 47(42.251,-1.073) 48(45.751,-1.073) 49(49.251,-1.073) 50(52.751,-1.073) 51(56.251,-1.073) 52(59.751,-1.073) 53(63.251,-1.073) 54(66.751,-1.073) 55(70.251,-1.073) 56(73.751,-1.073) 57(77.251,-1.073) 58(80.751,-1.073) 59(84.251,-1.073) 60(87.751,-1.073) 61(91.251,-1.073)
Top Overlay:
  lines w0.254: -20.75,-3.603 98.504,-3.603 98.694,-3.414 98.694,5.071 98.694,5.232 -20.641,5.232 -20.75,5.123 -20.75,-3.603

## Jump_68M [mm]
pads (68):
  rect 1.5x1.5 hole 0.9: 1(-0.181,0.008)
  round 1.5 hole 0.9: 2(-0.181,2.548) 3(2.359,0.008) 4(2.359,2.548) 5(4.899,0.008) 6(4.899,2.548) 7(7.439,0.008) 8(7.439,2.548) 9(9.979,0.008) 10(9.979,2.548) 11(12.519,0.008) 12(12.519,2.548) 13(15.059,0.008) 14(15.059,2.548) 15(17.599,0.008) 16(17.599,2.548) 17(20.139,0.008) 18(20.139,2.548) 19(22.679,0.008) 20(22.679,2.548) 21(25.219,0.008) 22(25.219,2.548) 23(27.759,0.008) 24(27.759,2.548) 25(30.299,0.008) 26(30.299,2.548) 27(32.839,0.008) 28(32.839,2.548) 29(35.379,0.008) 30(35.379,2.548) 31(37.919,0.008) 32(37.919,2.548) 33(40.459,0.008) 34(40.459,2.548) 35(42.999,0.008) 36(42.999,2.548) 37(45.539,0.008) 38(45.539,2.548) 39(48.079,0.008) 40(48.079,2.548) 41(50.619,0.008) 42(50.619,2.548) 43(53.159,0.008) 44(53.159,2.548) 45(55.699,0.008) 46(55.699,2.548) 47(58.239,0.008) 48(58.239,2.548) 49(60.779,0.008) 50(60.779,2.548) 51(63.319,0.008) 52(63.319,2.548) 53(65.859,0.008) 54(65.859,2.548) 55(68.399,0.008) 56(68.399,2.548) 57(70.939,0.008) 58(70.939,2.548) 59(73.479,0.008) 60(73.479,2.548) 61(76.019,0.008) 62(76.019,2.548) 63(78.559,0.008) 64(78.559,2.548) 65(81.099,0.008) 66(81.099,2.548) 67(83.639,0.008) 68(83.639,2.548)
Top Overlay:
  lines w0.2: -1.451,-1.262 84.978,-1.262 84.978,3.818 -1.451,3.818 -1.451,-1.262
  text "60" at 85.59,2.101 h1.27
  text "59" at 85.498,-0.626 h1.27
  text "1" at -2.721,-0.5 h1.27
  text "2" at -2.721,2.04 h1.27
Bottom Overlay:
  text "1" at -56.061,-0.5 h1.27

## LED7SEC(Nga-TB) [mm]
pads (25):
  round 1.2 on Top Overlay: 0(34.417,-2.667)
  round 1.2 hole 0.6: 1(27.432,8.763) 2(27.432,6.223) 201(28.702,7.493)
  round 1.2 hole 0.7: 3(27.432,3.683) 4(27.432,1.143) 5(27.432,-1.397) 6(27.432,-3.937) 7(27.432,-6.477) 8(35.052,-6.477) 9(35.052,-3.937) 10(35.052,-1.397) 11(35.052,1.143) 12(35.052,3.683) 13(35.052,6.223) 14(35.052,8.763) 202(28.702,4.953) 203(28.702,2.413) 204(28.702,-0.127) 205(28.702,-2.667) 206(33.782,-2.794) 207(33.782,-0.254) 208(33.782,2.286) 209(33.782,4.826) 210(33.782,7.366)
Top Layer:
  lines w0.254: 28.321,-2.413 31.369,-2.413 ; 28.702,-2.667 31.75,-2.667 ; 35.052,-1.397 35.56,-1.397 ; 35.052,6.096 35.052,6.223 35.052,6.096
Bottom Layer:
  lines w0.254: 28.702,-0.635 28.702,-0.127 ; 33.02,-0.254 33.782,-0.254
Top Overlay:
  lines w0.2: 27.178,-3.81 27.178,7.112 35.306,7.112 35.306,-3.81 27.178,-3.81
  lines w0.8: 28.473,1.651 33.147,1.651 ; 28.346,-2.413 28.346,5.842 31.947,5.842 33.147,5.842 33.147,-2.413 28.346,-2.413
3D body: height 14.65, standoff 0.1, extent 27.338,-3.683 30.193,6.858
3D body: height 14.65, standoff 0.1, extent 31.601,-3.683 34.594,6.858
3D body: height 14.65, standoff 0.1, extent 28.702,5.207 34.163,6.858
3D body: height 14.65, standoff 0.1, extent 28.321,-3.683 33.528,-2.032
3D body: height 13.65, standoff 0.1, extent 26.289,-8.509 36.449,11.049
3D body: height 14.65, standoff 0.1, extent 28.194,0.953 33.782,2.604
3D body: height 14.65, standoff 0.1, extent 34.544,-3.683 35.56,-2.667